# EAGLE library part LT3029 (library PowerProducts)
LT-Spice library generated with : ltspice.ulp from: E:/Programme/LTC/LTspiceIV/lib/sym/PowerProducts/LT3032*.asy at 05.10.2012 11:03:26
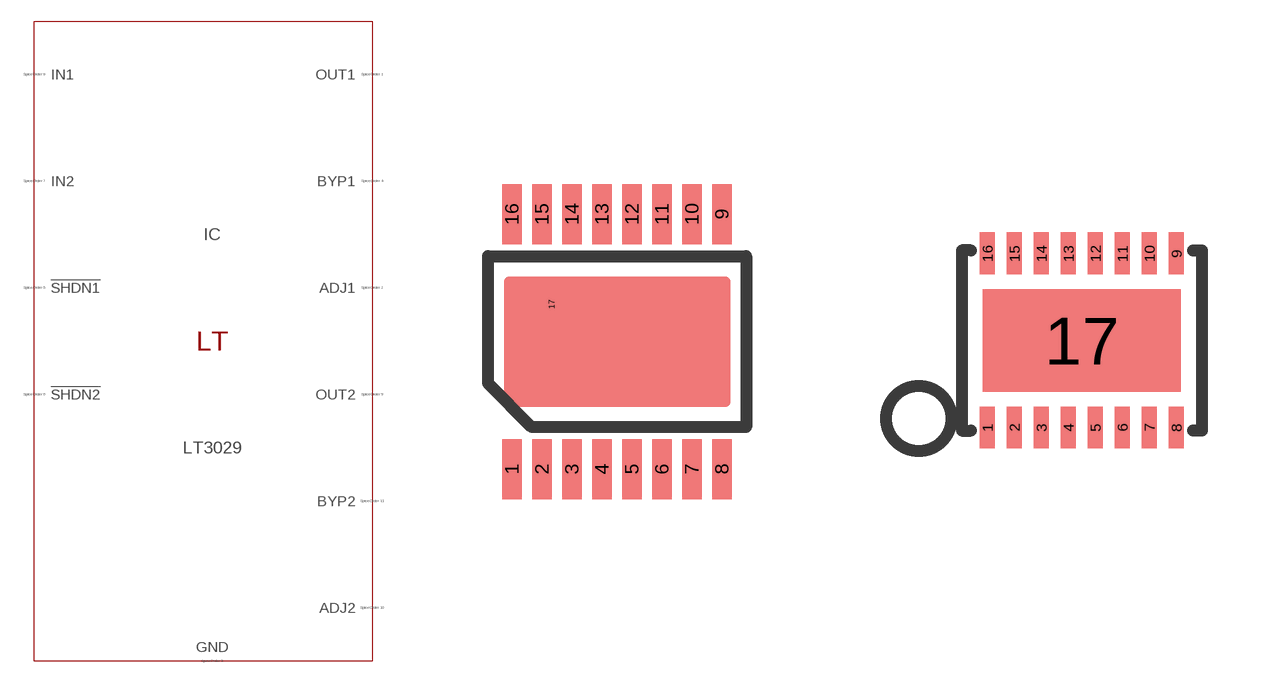
[diagram p26: symbol with the pads of MSOP16(MSE); footprints MSOP16(MSE), DFN16(DE)]

Designator prefix IC

## LT3029MSE (SPICEMODEL: LT1763.lib; SPICEPREFIX: X; VALUE2: LT1762)  [MSOP16(MSE)]
1  BYP1  pas
3  OUT1  pas
4  OUT1  pas
5  GND  pas
6  OUT2  pas
7  OUT2  pas
8  BYP2  pas
9  ADJ2  pas
10  !SHDN2  pas
11  IN2  pas
12  IN2  pas
13  IN1  pas
14  IN1  pas
15  !SHDN1  pas
16  ADJ1  pas
17  GND  pas

## LT3029 (SPICEMODEL: LT1763.lib; SPICEPREFIX: X; VALUE2: LT1762)  [DFN16(DE)]
Pads as for MSOP16(MSE)

## Footprint MSOP16(MSE) (pad centres in mm)
Package generated from: MSOP16(MSE).asc (!PADS-POWERPCB-V9.3-BASIC! DESIGN DATABASE ASCII FILE 1.0) with :import-pads-powerpcb-v5.ulp Version 1.0.1 at 04.10.2012 14:11:19
smd 0.495 x 1.5: 1 -2.625,-3.188; 2 -1.875,-3.188; 3 -1.125,-3.188; 4 -0.375,-3.188; 5 0.375,-3.188; 6 1.125,-3.188; 7 1.875,-3.188; 8 2.625,-3.188; 9 2.625,3.188; 10 1.875,3.188; 11 1.125,3.188; 12 0.375,3.188; 13 -0.375,3.188; 14 -1.125,3.188; 15 -1.875,3.188; 16 -2.625,3.188
smd 0 x 0.525: 17 -1.635,0.93

## Footprint DFN16(DE) (pad centres in mm)
Package generated from: DFN16(DE).asc (!PADS-POWERPCB-V9.3-BASIC! DESIGN DATABASE ASCII FILE 1.0) with :import-pads-powerpcb-v5.ulp Version 1.0.1 at 04.10.2012 14:11:17
smd 0.375 x 1.05: 1 -2.362,-2.175; 2 -1.688,-2.175; 3 -1.012,-2.175; 4 -0.338,-2.175; 5 0.338,-2.175; 6 1.012,-2.175; 7 1.688,-2.175; 8 2.362,-2.175; 9 2.362,2.175; 10 1.688,2.175; 11 1.012,2.175; 12 0.338,2.175; 13 -0.338,2.175; 14 -1.012,2.175; 15 -1.688,2.175; 16 -2.362,2.175
smd 4.95 x 2.55: 17 0,0